# EAGLE library part IC_INA226 (library akita)
Texas Instruments, INA226, Voltage/Current monitor
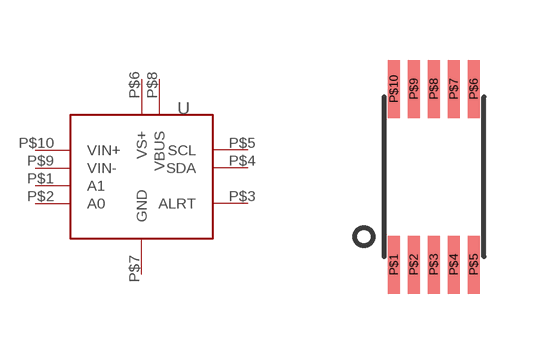
[diagram p178: symbol with the pads of MSOP10; footprint MSOP10]

Designator prefix U

## IC_INA226  [MSOP10]
P$1  A1
P$2  A0
P$3  ALRT
P$4  SDA
P$5  SCL
P$6  VS+
P$7  GND
P$8  VBUS
P$9  VIN-
P$10  VIN+

## Footprint MSOP10 (pad centres in mm)
MSOP10, 0.5mm pitch, W=5.0mm
smd 0.3 x 1.45: P$1 -1.25,-2.2; P$2 -0.75,-2.2; P$3 -0.25,-2.2; P$4 0.25,-2.2; P$5 0.75,-2.2; P$6 0.75,2.2; P$7 0.25,2.2; P$8 -0.25,2.2; P$9 -0.75,2.2; P$10 -1.25,2.2